# Altium schematic symbol library IRLMS6702-MICRO6.SchLib: 1 symbol
Pins are listed as number, name and electrical type; pins without a type are passive.

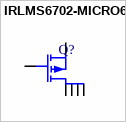
[diagram p0: symbol IRLMS6702-MICRO6]

## IRLMS6702-MICRO6
designator Q?  (value not drawn)
pins: 1 D, 2 D, 3 G, 4 S, 5 D, 6 D